# Altium integrated library SC16IS752_SC16IS762.IntLib: 1 symbol
Pins are listed as number, name and electrical type; pins without a type are passive.

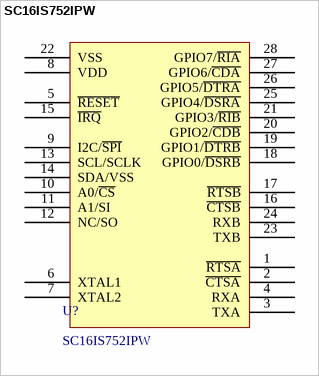
[diagram p0: symbol SC16IS752IPW]

## SC16IS752IPW
designator U?
footprint TSSOP28_L (9.8*6.4*1mm（长宽高）)
footprint TSSOP28_M (9.8*6.4*1mm（长宽高）)
footprint TSSOP28_n (9.8*6.4*1mm（长宽高）)
pins: 1 ~{RTSA}, 2 ~{CTSA}, 3 TXA, 4 RXA, 5 ~{RESET}, 6 XTAL1, 7 XTAL2, 8 VDD, 9 I2C/~{SPI}, 10 A0/~{CS}, 11 A1/SI, 12 NC/SO, 13 SCL/SCLK, 14 SDA/VSS, 15 ~{IRQ}, 16 ~{CTSB}, 17 ~{RTSB}, 18 GPIO0/~{DSRB}, 19 GPIO1/~{DTRB}, 20 GPIO2/~{CDB}, 21 GPIO3/~{RIB}, 22 VSS, 23 TXB, 24 RXB, 25 GPIO4/~{DSRA}, 26 GPIO5/~{DTRA}, 27 GPIO6/~{CDA}, 28 GPIO7/~{RIA}